# Altium schematic symbol library MT29F2G16AADWP.schlib: 1 symbol
Pins are listed as number, name and electrical type; pins without a type are passive.

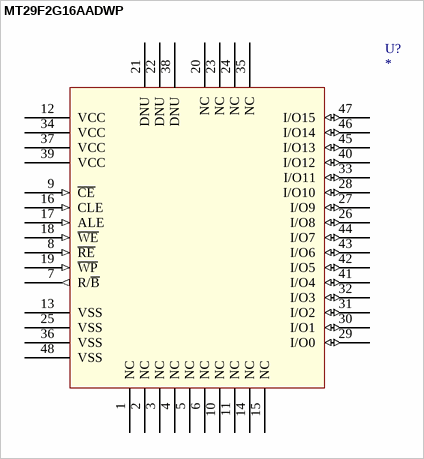
[diagram p0: symbol MT29F2G16AADWP]

## MT29F2G16AADWP
designator U?
pins: 1 NC, 2 NC, 3 NC, 4 NC, 5 NC, 6 NC, 7 R/~{B} (out), 8 ~{RE} (in), 9 ~{CE} (in), 10 NC, 11 NC, 12 VCC (power), 13 VSS (power), 14 NC, 15 NC, 16 CLE (in), 17 ALE (in), 18 ~{WE} (in), 19 ~{WP} (in), 20 NC, 21 DNU, 22 DNU, 23 NC, 24 NC, 25 VSS (power), 26 I/O8 (io), 27 I/O9 (io), 28 I/O10 (io), 29 I/O0 (io), 30 I/O1 (io), 31 I/O2 (io), 32 I/O3 (io), 33 I/O11 (io), 34 VCC (power), 35 NC, 36 VSS (power), 37 VCC (power), 38 DNU, 39 VCC (power), 40 I/O12 (io), 41 I/O4 (io), 42 I/O5 (io), 43 I/O6 (io), 44 I/O7 (io), 45 I/O13 (io), 46 I/O14 (io), 47 I/O15 (io), 48 VSS (power)